# EAGLE library part TEXAS_INSTRUMENTS-AND_GATE-SN74LVC1G11_DCK_6 (library Module_Gates)
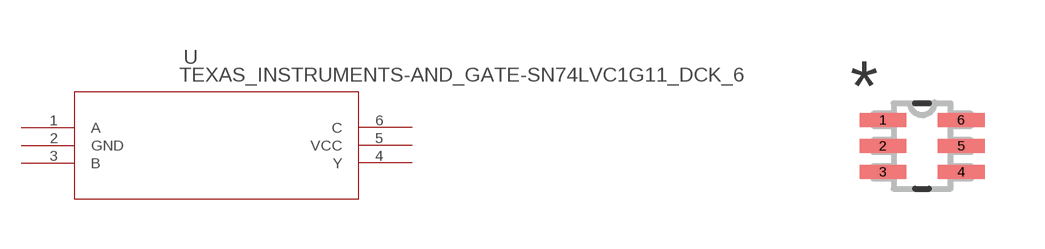
[diagram p2: symbol with the pads of TEXAS_INSTRUMENTS-AND_GATE-SN74LVC1G11_DCK_6; footprint TEXAS_INSTRUMENTS-AND_GATE-SN74LVC1G11_DCK_6]

Designator prefix U

## TEXAS_INSTRUMENTS-AND_GATE-SN74LVC1G11_DCK_6 (DATASHEETURL: httpwww.ti.comlitgpnSN74LVC1G11; FAMILY_NAME: LL AND GATE; GENERIC_PART_NUMBER: SN74LVC1G11; INDUSTRY_STD_PKG_TYPE: SC70; MANUFACTURER: Texas Instruments; MANUFACTURER_PART_NUMBER: sn74lvc1g11_dck_6; PACKAGE_DESIGNATOR: DCK; PIN_COUNT: 6; VENDOR: Texas Instruments)  [TEXAS_INSTRUMENTS-AND_GATE-SN74LVC1G11_DCK_6]
1  A  in
2  GND  pwr
3  B  in
4  Y  out
5  VCC  pwr
6  C  in

## Footprint TEXAS_INSTRUMENTS-AND_GATE-SN74LVC1G11_DCK_6 (pad centres in mm)
smd 1.168 x 0.356: 1 -0.978,0.65; 2 -0.978,0; 3 -0.978,-0.65; 4 0.978,-0.65; 5 0.978,0; 6 0.978,0.65